# EAGLE library part AD8554ARUZ (library AD8554ATUZ)
Zero-Drift, Single-Supply, Rail-to-Rail Input/Output Operational Amplifiers
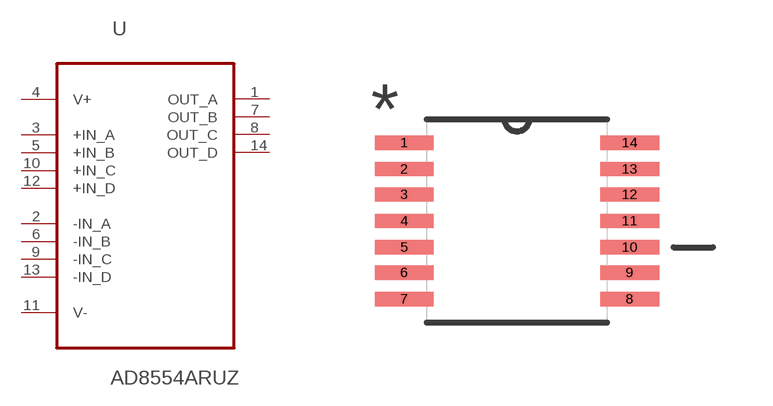
[diagram p0: symbol with the pads of SOP65P640X120-14N; footprint SOP65P640X120-14N]

Designator prefix U

## AD8554ARUZ (MPN: AD8554ARUZ; OC_FARNELL: 2253356; OC_NEWARK: 59K6834; PACKAGE: TSSOP-14; SUPPLIER: Analog Devices)  [SOP65P640X120-14N]
1  OUT_A  out
2  -IN_A  in
3  +IN_A  in
4  V+  pwr
5  +IN_B  in
6  -IN_B  in
7  OUT_B  out
8  OUT_C  out
9  -IN_C  in
10  +IN_C  in
11  V-  pwr
12  +IN_D  in
13  -IN_D  in
14  OUT_D  out

## Footprint SOP65P640X120-14N (pad centres in mm)
smd 1.473 x 0.356: 1 -2.819,1.956; 2 -2.819,1.295; 3 -2.819,0.66; 4 -2.819,0; 5 -2.819,-0.66; 6 -2.819,-1.295; 7 -2.819,-1.956; 8 2.819,-1.956; 9 2.819,-1.295; 10 2.819,-0.66; 11 2.819,0; 12 2.819,0.66; 13 2.819,1.295; 14 2.819,1.956